# Altium schematic symbol library TPS54622RHLR.SchLib: 1 symbol
Pins are listed as number, name and electrical type; pins without a type are passive.

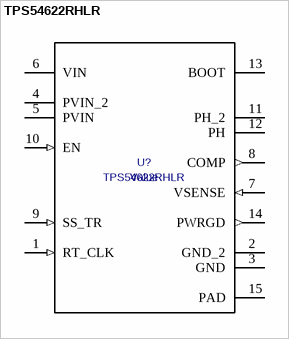
[diagram p0: symbol TPS54622RHLR]

## TPS54622RHLR
designator U?
Manufacturer: Texas Instruments; CompType: IC; PIN_COUNT: 15; PartNumber: TPS54622RHLR; PackageReference: RHL0014A; MountType: SMT; RoHS: Y; Value: Value
footprint RHL0014A
pins: 1 RT_CLK (in), 2 GND_2 (power), 3 GND (power), 4 PVIN_2 (power), 5 PVIN (power), 6 VIN (power), 7 VSENSE (in), 8 COMP (out), 9 SS_TR (in), 10 EN (in), 11 PH_2 (power), 12 PH (power), 13 BOOT (power), 14 PWRGD (out), 15 PAD (power)